# Altium integrated library 2.54-1_5P.IntLib: 1 symbol
Pins are listed as number, name and electrical type; pins without a type are passive.

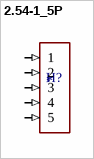
[diagram p0: symbol 2.54-1_5P]

## 2.54-1_5P
designator H?  (value not drawn)
Pin Headers. -55C~+105C 1 1x5P 2.54mm 3.2mm 3A 5P 8.5mm Brass Gold Square Hole Through Hole Top ,P=2.54mm Female Headers ROHS; Manufacturer Part Number: 2.54-1*5P; Manufacturer: BOOMELE(Boom Precision Elec); Component Type: Standard; Design Item ID: 2.54-1_5P; Value: *; JLCPCB Part #: C50950
footprint 2.54-1_5P (HDR-TH_5P-P2.54-V-F)
pins: 1 (in), 2 (in), 3 (in), 4 (in), 5 (in)